# EAGLE library part TC4427AEOA (library Parts)
IC, MOSFET DRIVER, LOW SIDE
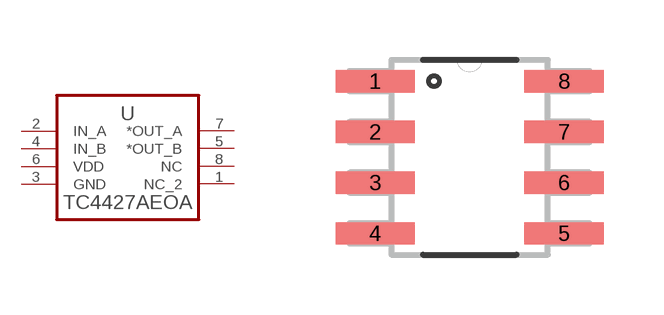
[diagram p2: symbol with the pads of SOIC127P600X175-8N; footprint SOIC127P600X175-8N]

Designator prefix U

## TC4427AEOA (MPN: TC4427AEOA; OC_FARNELL: 1292285; OC_NEWARK: 96K4020; PACKAGE: SOIC-8; SUPPLIER: Microchip)  [SOIC127P600X175-8N]
1  NC_2  nc
2  IN_A  in
3  GND  pas
4  IN_B  in
5  *OUT_B  out
6  VDD  pwr
7  *OUT_A  out
8  NC  nc

## Footprint SOIC127P600X175-8N (pad centres in mm)
smd 1.981 x 0.559: 1 -2.362,1.905; 2 -2.362,0.635; 3 -2.362,-0.635; 4 -2.362,-1.905; 5 2.362,-1.905; 6 2.362,-0.635; 7 2.362,0.635; 8 2.362,1.905